# Altium footprint library Component.PcbLib: 58 footprints (part 1 of 4)
Each footprint in its own frame and in the unit in brackets; x right, y up, seen from the top. Pads: shape width x height; smd on the part's side, far side on the other; paste and mask are expansions set on the pad; w line width, h text height; cw(c..) or ccw(c..) is an arc to the next point about the centre after c.
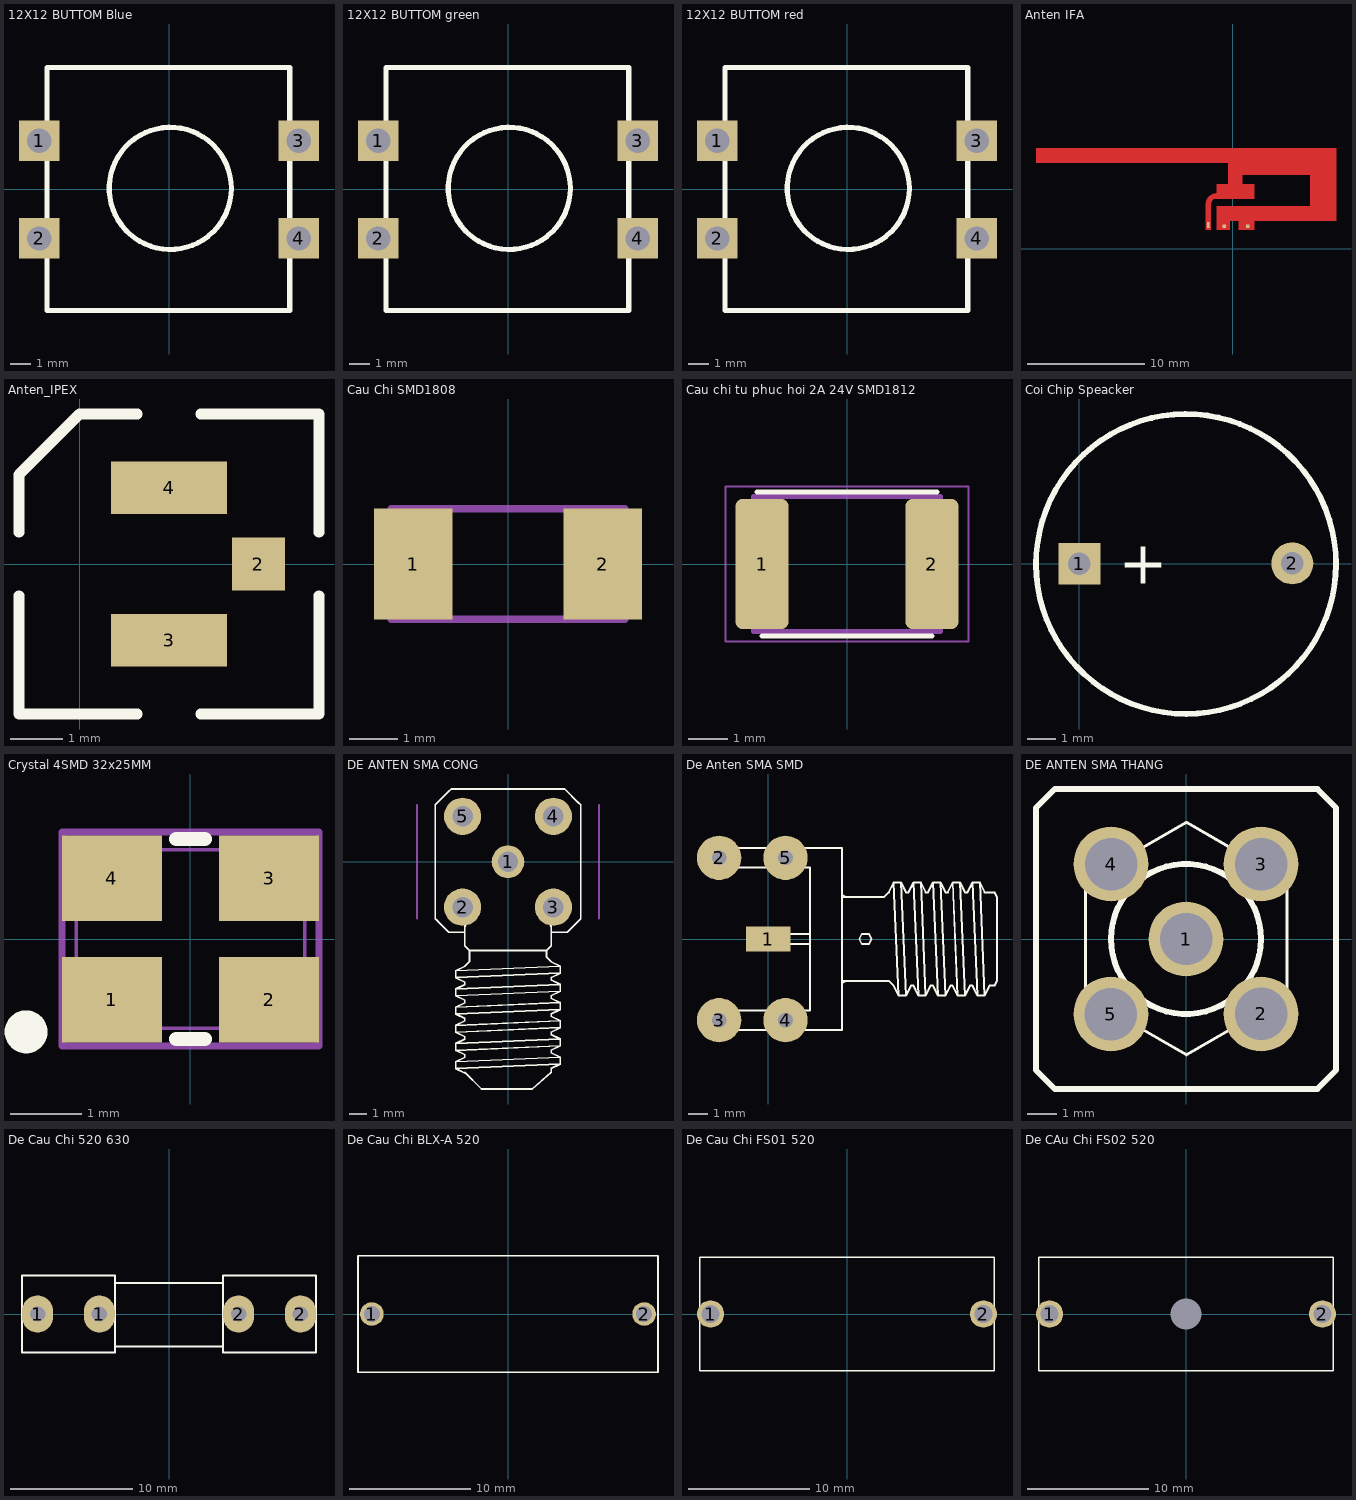
[diagram p0: the footprints below, top view; thin cyan lines are the x and y axes]

## 12X12 BUTTOM Blue [mm]
pads (4):
  rect 2x2 hole 1.2: 1(-6.413,2.38) 2(-6.413,-2.446) 3(6.413,2.38) 4(6.413,-2.446)
Top Overlay:
  circle w0.254: c0.064,0.031 r3.019
  lines w0.254: -6.032,-6 5.967,-6 5.967,6 -6.032,6 -6.032,-6
3D body "12mmx12mm With Blue cap.stp": height 8.84, standoff -3.05, extent -6.708,-6.032 6.708,5.982

## 12X12 BUTTOM green [mm]
pads (4):
  rect 2x2 hole 1.2: 1(-6.413,2.38) 2(-6.413,-2.446) 3(6.413,2.38) 4(6.413,-2.446)
Top Overlay:
  circle w0.254: c0.064,0.031 r3.019
  lines w0.254: -6.032,-6 5.967,-6 5.967,6 -6.032,6 -6.032,-6
3D body "12mmx12mm With Green cap.stp": height 8.84, standoff -3.05, extent -6.734,-5.982 6.683,6.033

## 12X12 BUTTOM red [mm]
pads (4):
  rect 2x2 hole 1.2: 1(-6.413,2.38) 2(-6.413,-2.446) 3(6.413,2.38) 4(6.413,-2.446)
Top Overlay:
  circle w0.254: c0.064,0.031 r3.019
  lines w0.254: -6.032,-6 5.967,-6 5.967,6 -6.032,6 -6.032,-6
3D body "12mmx12mm With Red cap.stp": height 8.84, standoff -3.05, extent -6.708,-6.007 6.708,6.007

## Anten IFA [mm]
pads (3):
  rect 0.3x0.3 smd: 1(-0.737,1.93) 2(1.27,1.93)
  rect 0.2x0.5 smd: 3(-2.108,2.032)
Top Layer:
  region: -16.784,7.351 -16.784,8.561 8.796,8.561 8.796,2.391 1.816,2.391 1.816,1.651 0.521,1.651 0.521,2.391 -0.259,2.391 -0.259,1.651 -1.383,1.651 -1.383,3.643 6.596,3.643 6.596,6.313 0.796,6.313 0.796,5.498 1.811,5.498 1.811,4.294 -1.389,4.294 -1.482,4.285 -1.653,4.214 -1.785,4.082 -1.856,3.911 -1.865,3.818 -1.865,1.651 -2.325,1.651 -2.325,3.797 -2.325,3.89 -2.289,4.072 -2.218,4.243 -2.115,4.397 -1.983,4.528 -1.829,4.631 -1.658,4.702 -1.476,4.738 -1.383,4.738 -1.383,4.739 -1.383,5.513 -0.388,5.513 -0.388,7.351

## Anten_IPEX [mm]
pads (3):
  rect 1x1 smd: 2(3.4,0)
  rect 2.2x1 smd: 3(1.7,-1.45) 4(1.7,1.45)
Top Overlay:
  lines w0.2: -1.15,-0.6 -1.15,-2.85 1.1,-2.85 ; -1.15,0.6 -1.15,1.7 0,2.85 1.1,2.85 ; 2.3,-2.85 4.55,-2.85 4.55,-0.6 ; 2.3,2.85 4.55,2.85 4.55,0.6

## Cau Chi SMD1808 [mil]
pads (2):
  rect 64x90 smd: 1(-77,0) 2(77,0)
Mechanical 13:
  lines w6: -55,-45 55,-45 ; -55,-45 -95,-45 -95,45 -55,45 ; -55,-45 -55,45 ; -55,45 55,45 ; 55,-45 95,-45 95,45 55,45 ; 55,-45 55,45
3D body "User Library-SMD Ceramic Capacitors_1808 (4520)_LF.STEP": height 39.37, standoff 0, extent -90.79,-39.36 90.8,39.38

## Cau chi tu phuc hoi 2A 24V SMD1812 [mm]
pads (2):
  rrect25% 1.34x3.29 smd: 1(-2.15,0) 2(2.15,0)
Top Overlay:
  lines w0.127: -2.28,1.825 2.28,1.825 ; -2.15,-1.825 2.15,-1.825
Mechanical 13:
  lines w0.127: -2.37,-1.71 2.37,-1.71 2.37,1.71 -2.37,1.71 -2.37,-1.71
Mechanical 15:
  lines w0.05: -3.07,-1.96 3.07,-1.96 3.07,1.96 -3.07,1.96 -3.07,-1.96
3D body "step_temp.STEP": height 1.25, standoff 0, extent -2.275,-1.62 2.275,1.62

## Coi Chip Speacker [mm]
pads (2):
  rect 1.5x1.5 hole 0.8: 1(0,0)
  round 1.5 hole 0.8: 2(7.62,0.013)
Top Overlay:
  lines w0.203: 7.724,3.67 ccw(c3.816,-0.008) 7.76,3.632
  text "+" at 1.41,-0.711 h1.52
3D body "User Library-Buzzer WST-1203UX.step": height 4.5, standoff -9.65, extent -2.215,-6 13.239,6

## Crystal 4SMD 32x25MM [mm]
pads (4):
  rect 1.4x1.2 smd: 1(-1.1,-0.85) 2(1.1,-0.85) 3(1.1,0.85) 4(-1.1,0.85)
Top Overlay:
  circle w0.4: c-2.3,-1.3 r0.1
  lines w0.2: -0.2,-1.4 0.2,-1.4 ; -0.2,1.4 0.2,1.4
Mechanical 13:
  circle w0.28: c-1.059,-0.8 r0.141
  lines w0.05: -1.6,-1.25 1.6,-1.25 1.6,1.25 -1.6,1.25 -1.6,-1.25
Mechanical 15:
  circle w0.1: c-1.2,-0.9 r0.4
  lines w0.1: -1.8,-1.5 -1.8,1.5 1.8,1.5 1.8,-1.5 -1.8,-1.5
3D body "User Library-3225-1.step": height 0.62, standoff 0.01, extent -1.6,-1.25 1.6,1.25

## DE ANTEN SMA CONG [mil]
pads (5):
  round 72 hole 45: 1(0,0)
  round 82 hole 45: 2(-100,-100) 3(100,-100) 4(100,100) 5(-100,100)
Top Overlay:
  lines w4: -155,-130 -160,-125 ; -95,-465 -115,-455 ; -95,-463.33 -58.33,-500 53.33,-500 95,-463.33 95,-455 115,-445 ; -95,-155 -130,-155 -160,-125 ; -93.33,-141.67 -95,-140 -95,-185 -85,-195 ; 93.33,-141.67 95,-140 95,-185 85,-195 ; 95,-155 130,-155 160,-125 160,80 ; 160,75 160,125 155,130 125,160 -125,160 -130,155 -160,125 -160,-125 ; -115,-455 -115,-440 ; -115,-455 115,-445 ; -115,-440 -95,-430 -95,-425 -115,-415 ; -115,-440 115,-430 ; -115,-415 -115,-400 ; -115,-415 115,-405 ; -115,-400 -95,-390 -95,-385 -115,-375 ; -115,-400 115,-390 ; -115,-375 -115,-360 ; -115,-375 115,-365 ; -115,-360 -95,-350 -95,-345 -115,-335 ; -115,-360 115,-350 ; -115,-335 -115,-320 ; -115,-335 115,-325 ; -115,-320 -95,-310 -95,-305 -115,-295 ; -115,-320 115,-310 ; -115,-295 -115,-280 ; -115,-295 115,-285 ; -115,-280 -95,-270 -95,-265 -115,-255 ; -115,-280 115,-270 ; -115,-255 -115,-240 ; -115,-255 115,-245 ; -115,-240 -95,-230 -85,-220 -85,-210 -85,-200 -85,-195 ; -115,-240 115,-230 ; -85,-195 85,-195 ; 85,-195 85,-200 85,-210 95,-220 115,-230 ; 115,-445 115,-430 ; 115,-430 95,-420 95,-415 115,-405 ; 115,-405 115,-390 ; 115,-390 95,-380 95,-375 115,-365 ; 115,-365 115,-350 ; 115,-350 95,-340 95,-335 115,-325 ; 115,-325 115,-310 ; 115,-310 95,-300 95,-295 115,-285 ; 115,-285 115,-270 ; 115,-270 95,-260 95,-255 115,-245 ; 115,-245 115,-230
Mechanical 1:
  lines w4: -200,-125 -200,125 ; 200,-125 200,125
3D body "SMA-J-P-X-RA-TH1.step": height 394.06, standoff -149.25, extent -136.5,-457.49 139.09,137

## De Anten SMA SMD [mil]
pads (5):
  rect 90x50 smd: 1(0,0)
  round 90 hole 30: 2(-100,165) 3(-100,-165) 4(35,-165) 5(35,165)
Top Overlay:
  lines w4: 10,-10 85,-10 ; 10,10 85,10 ; 150,-90 160,-85 ; 150,-85 200,-85 220,-85 225,-85 235,-85 245,-85 255,-95 265,-115 ; 150,85 200,85 220,85 225,85 235,85 245,95 255,115 ; 150,90 160,85 ; 255,115 265,-115 ; 255,115 270,115 ; 265,-115 280,-115 ; 270,115 280,-115 ; 270,115 280,95 285,95 ; 280,-115 290,-95 ; 285,95 295,115 ; 285,95 295,115 ; 290,-95 295,-95 ; 290,-95 295,-95 ; 295,-95 305,-115 ; 295,115 305,-115 ; 295,115 310,115 ; 305,-115 320,-115 ; 310,115 320,-115 ; 310,115 320,95 325,95 335,115 ; 320,-115 330,-95 335,-95 345,-115 ; 335,115 345,-115 ; 335,115 350,115 ; 345,-115 360,-115 ; 350,115 360,-115 ; 350,115 360,95 365,95 375,115 ; 360,-115 370,-95 375,-95 385,-115 ; 375,115 385,-115 ; 375,115 390,115 ; 385,-115 400,-115 ; 390,115 400,-115 ; 390,115 400,95 405,95 415,115 ; 400,-115 410,-95 415,-95 425,-115 ; 415,115 425,-115 ; 415,115 430,115 ; 425,-115 440,-115 ; 430,115 440,-115 ; 430,115 440,95 448.33,95 460,95 465,85 465,53.33 465,-58.33 465,-85 460,-95 450,-95 440,-115 ; -100,-185 150,-185 150,185 85,185 65,185 -100,185 -100,145 85,145 85,-145 -100,-145 -100,-185 ; 185,0 190,-10 205,-10 210,0 205,10 190,10 185,0
3D body "sma-endlaunch-wide.step": height 155.91, standoff -155.91, extent -103.24,-186 441.24,188.8

## DE ANTEN SMA THANG [mil]
pads (5):
  round 100 hole 70: 1(0,0) 2(100,-100) 3(100,100) 4(-100,100) 5(-100,-100)
Top Overlay:
  circle w8: c0,0 r100
  circle w8: c0,0 r25
  lines w4: -133.69,-76.91 -133.69,78.09 0.55,155.59 134.78,78.09 134.78,-76.91 0.55,-154.41 -133.69,-76.91
  lines w8: -200,-175 -175,-200 175,-200 200,-175 200,175 175,200 -175,200 -200,175 -200,150 -200,-175
3D body "SMA-J-P-X-ST-TH1.step": height 385.54, standoff -145.95, extent -138.3,-136.09 137.3,139.5

## De Cau Chi 520 630 [mil] "De Fuse"
pads (4):
  oval 100x120 hole 50: 1(-425,0) 1(-225,0) 2(225,0) 2(425,0)
Top Overlay:
  lines w7: -175,-105 175,-105 ; -175,100 175,100 ; -475,-125 -475,125 -175,125 -175,-125 -475,-125 ; 175,-125 475,-125 475,125 175,125 175,-125
3D body "SW3dPS-Fuse Leg_2009.STEP": height 377.88, standoff -129.94, extent 219,-116.71 459,127
3D body "SW3dPS-Fuse Small 1A.STEP": height 370.39, standoff 169.61, extent -384.8,-98 390.8,102.79
3D body "SW3dPS-Fuse Leg_2009.STEP": height 377.88, standoff -129.94, extent -448,-117 -208,126.71

## De Cau Chi BLX-A 520 [mm] "PCB - Clip Cover - THR"
height 12.6
pads (2):
  round 1.95 hole 1.3: 1(-11.25,0) 2(11.25,0)
Top Overlay:
  lines w0.127: -12.4,-4.8 12.4,-4.8 12.4,4.8 -12.4,4.8 -12.4,-4.8
3D body "696103201002.stp": height 25, standoff -4.1, extent -12.4,-4.8 12.4,4.8

## De Cau Chi FS01 520 [mm] "FUSEHOLDER BLOCKS - PCB - CLIP COVER - THT - WR-FSH"
height 11.5
pads (2):
  round 2.25 hole 1.5: 1(-11.3,0) 2(11.3,0)
Top Overlay:
  lines w0.127: -12.2,-4.7 12.2,-4.7 12.2,4.7 -12.2,4.7 -12.2,-4.7
3D body "696108003002.stp": height 23.72, standoff -3.48, extent -12.2,-4.7 12.2,4.7

## De CAu Chi FS02 520 [mm] "FUSEHOLDER BLOCKS - PCB - CLIP COVER - THT - WR-FSH"
height 11.5
pads (3):
  round 2.25 hole 1.5: 1(-11.3,0) 2(11.3,0)
  round 0 hole 2.6 unplated: ""(0,0)
Top Overlay:
  lines w0.127: -12.2,-4.7 12.2,-4.7 12.2,4.7 -12.2,4.7 -12.2,-4.7
3D body "696107003002.stp": height 23.72, standoff -3.48, extent -12.2,-4.7 12.2,4.7